# EAGLE library part MIC2026 (library BaseApp)
Digikey No:- __576-2137-ND__
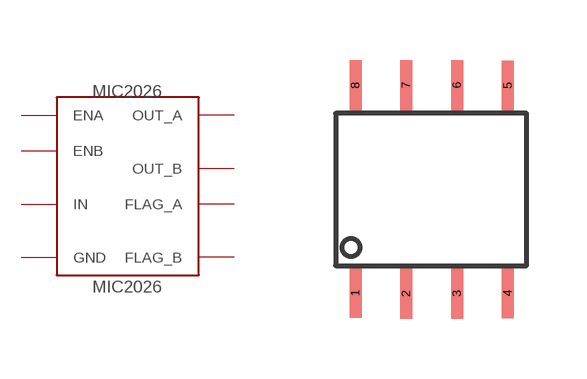
[diagram p6: symbol with the pads of SOP-8; footprint SOP-8]

Designator prefix MIC2026

## MIC2026  [SOP-8]
1  ENA
2  FLAG_A
3  FLAG_B
4  ENB
5  OUT_B
6  GND
7  IN
8  OUT_A

## Footprint SOP-8 (pad centres in mm)
smd 0.3 x 1.25: 1 -0.77,-1.95; 2 0.5,-1.968; 3 1.77,-1.968; 4 3.04,-1.959; 5 3.04,3.231; 6 1.77,3.248; 7 0.5,3.248; 8 -0.77,3.239